# Altium schematic symbol library Socket 10.SchLib: 1 symbol
Pins are listed as number, name and electrical type; pins without a type are passive.

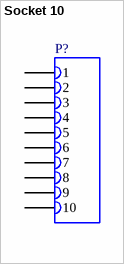
[diagram p0: symbol Socket 10]

## Socket 10
designator P?
Socket, 10-Pin
pins: 1, 2, 3, 4, 5, 6, 7, 8, 9, 10